# Altium schematic symbol library ARK2.Schlib: 1 symbol
Pins are listed as number, name and electrical type; pins without a type are passive.

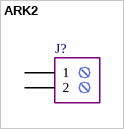
[diagram p0: symbol ARK2]

## ARK2
designator J?  (value not drawn)
pins: 1, 2